# Altium schematic symbol library 200528-0200.SchLib: 1 symbol
Pins are listed as number, name and electrical type; pins without a type are passive.

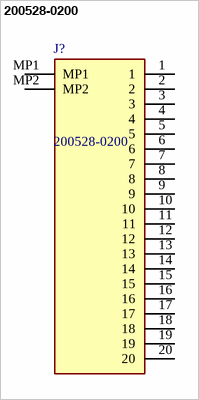
[diagram p0: symbol 200528-0200]

## 200528-0200
designator J?
FFC & FPC Connectors 1.0 FPC ZIF BTM 20Ckt; Manufacturer_Name: Molex; Geometry.Height: 2.1mm; Mouser Part Number: 538-200528-0200; Mouser Price/Stock: https://www.mouser.co.uk/ProductDetail/Molex/200528-0200?qs=0lSvoLzn4L%252Bo0Zbg1dhYxg%3D%3D; Manufacturer_Part_Number: 200528-0200; Datasheet Link: *
footprint 2005280200
pins: 1, 2, 3, 4, 5, 6, 7, 8, 9, 10, 11, 12, 13, 14, 15, 16, 17, 18, 19, 20, MP1, MP2